# Altium footprint library FDMS86101A.PcbLib: 1 footprints
Each footprint in its own frame and in the unit in brackets; x right, y up, seen from the top. Pads: shape width x height; smd on the part's side, far side on the other; paste and mask are expansions set on the pad; w line width, h text height; cw(c..) or ccw(c..) is an arc to the next point about the centre after c.
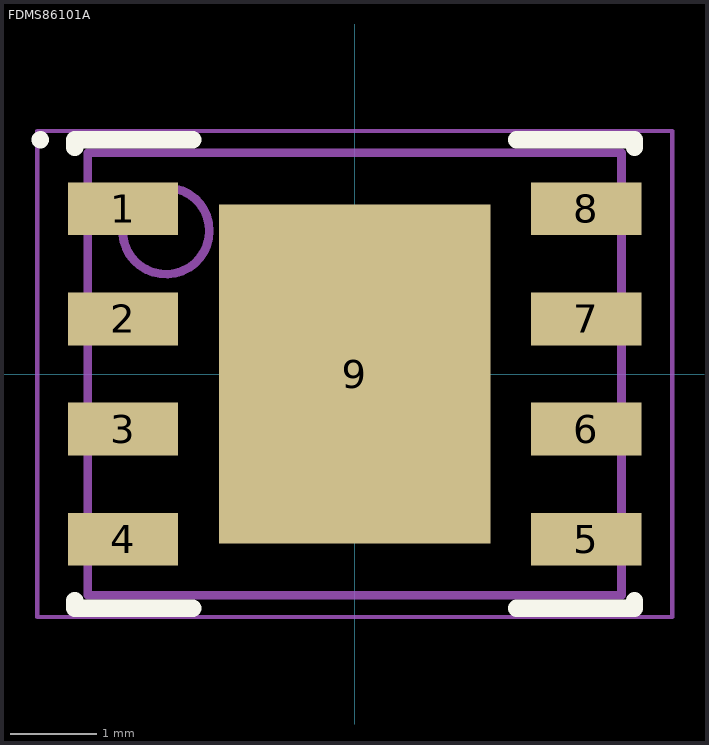
[diagram p0: the footprint, top view; thin cyan lines are the x and y axes]

## FDMS86101A [mm] "SON, 8-Leads, Body 5.10x6.15mm, Pitch 1.27mm, Thermal Pad 3.91x3.13mm, IPC Medium Density"
height 1.1
pads (9):
  rect 1.27x0.61 smd: 1(-2.67,1.905) 2(-2.67,0.635) 3(-2.67,-0.635) 4(-2.67,-1.905) 5(2.67,-1.905) 6(2.67,-0.635) 7(2.67,0.635) 8(2.67,1.905)
  rect 3.13x3.91 smd paste-1.565: 9(0,0)
Top Overlay:
  circle w0.1: c-3.625,2.7 r0.05
  lines w0.2: -3.225,-2.61 -3.225,-2.7 -1.865,-2.7 ; -3.225,2.61 -3.225,2.7 -1.865,2.7 ; 1.865,-2.7 3.225,-2.7 3.225,-2.61 ; 1.865,2.7 3.225,2.7 3.225,2.61
Top Paste:
  rectangle: -1.47,0.75 -0.1,1.85
  rectangle: -1.47,-0.55 -0.1,0.55
  rectangle: -1.47,-1.85 -0.1,-0.75
  rectangle: 0.1,0.75 1.47,1.85
  rectangle: 0.1,-0.55 1.47,0.55
  rectangle: 0.1,-1.85 1.47,-0.75
Mechanical 13:
  circle w0.1: c-2.175,1.65 r0.5
  lines w0.1: -3.075,-2.55 -3.075,2.55 3.075,2.55 3.075,-2.55 -3.075,-2.55
Mechanical 15:
  lines w0.05: -3.66,-2.8 -3.66,2.8 3.66,2.8 3.66,-2.8 -3.66,-2.8
  lines w0.1: -0.5,0 0.5,0 ; 0,-0.5 0,0.5
3D body: height 1.1, standoff 0, extent -3.075,-2.55 3.075,2.55